# Altium footprint library LED.PcbLib: 8 footprints
Each footprint in its own frame and in the unit in brackets; x right, y up, seen from the top. Pads: shape width x height; smd on the part's side, far side on the other; paste and mask are expansions set on the pad; w line width, h text height; cw(c..) or ccw(c..) is an arc to the next point about the centre after c.
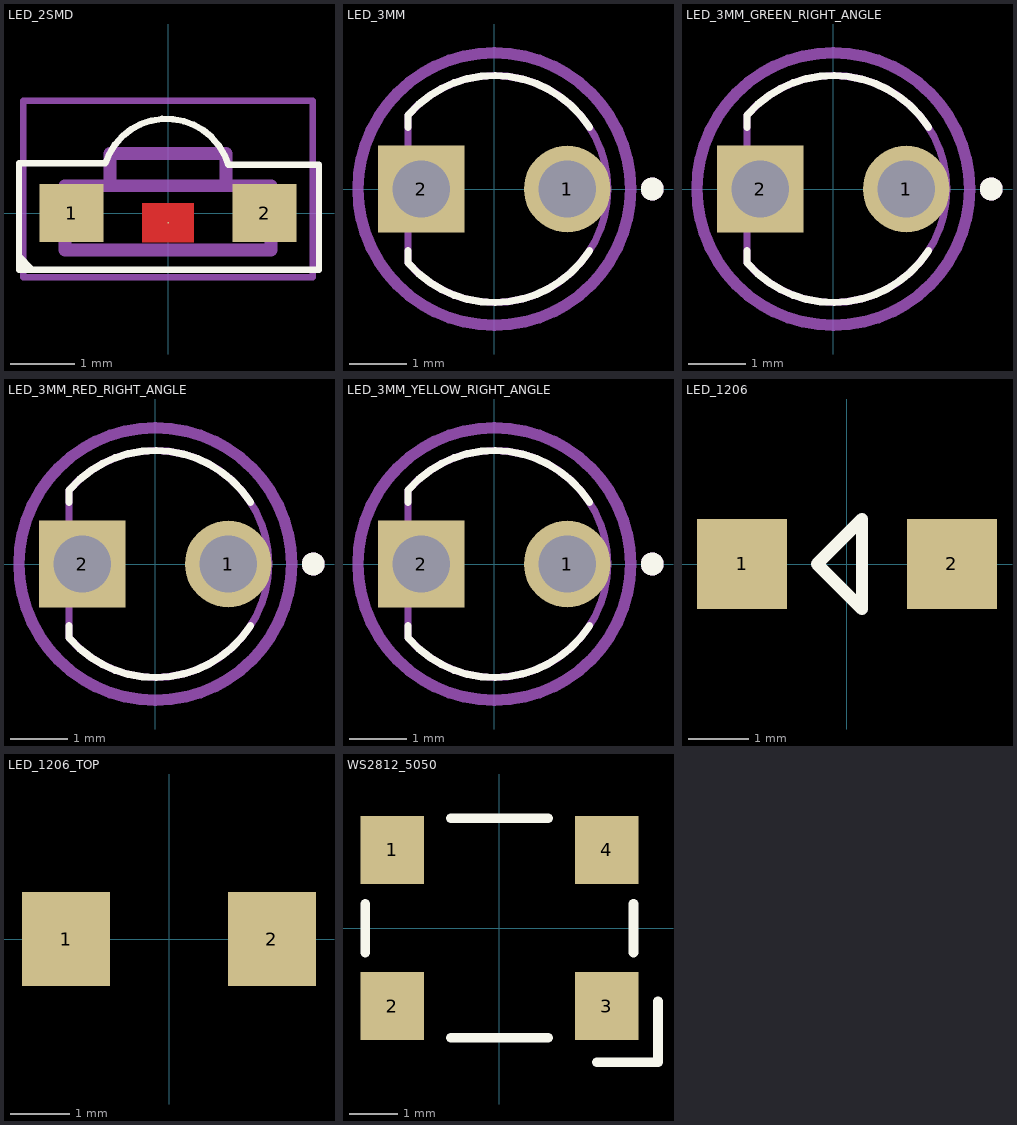
[diagram p0: the footprints below, top view; thin cyan lines are the x and y axes]

## LED_2SMD [mm]
pads (3):
  rect 1x0.9 smd: 1(-1.5,0) 2(1.5,0)
  round 0.025 smd: 3(0,-0.15)
Top Layer:
  region: -0.4,0.15 0.4,0.15 0.4,-0.45 -0.4,-0.45
Top Overlay:
  lines w0.1: -2.309,-0.679 -2.309,-0.682 -2.125,-0.866 -2.239,-0.866 -2.289,-0.816 -2.289,-0.776 ; 0.936,0.749 ccw(c-0.024,0.467) -0.975,0.775 -2.317,0.775 -2.317,-0.878 2.346,-0.878 2.346,0.75 0.94,0.75
Mechanical 13:
  lines w0.2: -1.6,-0.575 -1.6,0.425 1.6,0.425 1.6,-0.575 -1.6,-0.575 ; -0.9,0.425 -0.9,0.925 0.9,0.925 0.9,0.425 -0.9,0.425
Mechanical 15:
  lines w0.1: -2.25,-1 -2.25,1.75 2.25,1.75 2.25,-1 -2.25,-1
3D body "Download_STP_WL-SMSW-1204_rev1.stp": height 1, standoff 0, extent -1.594,-0.089 1.606,1.389

## LED_3MM [mm]
pads (2):
  round 1.508 hole 1: 1(1.27,0)
  rect 1.508x1.508 / inner round 1.508 / far side rect 1.508x1.508 hole 1: 2(-1.27,0)
Top Overlay:
  circle w0.2: c2.75,0 r0.1
  lines w0.127: -1.5,-1.285 -1.5,-1.074 ; -1.5,1.074 -1.5,1.285 ; -1.491,-1.296 ccw(c0,0) 1.656,-1.076 ; -1.491,1.296 cw(c0,0) 1.656,1.076
Mechanical 13:
  circle w0.2: c2.75,0 r0.1
  lines w0.127: -1.5,-1.285 -1.5,1.285 ; -1.491,-1.296 ccw(c0,0) -1.491,1.296
Mechanical 15:
  circle w0.2: c0,0 r2.372
3D body "LED 3mm Red 3mm Leads.step": height 5.39, standoff -2.99, extent -1.5,-2 1.945,1.85

## LED_3MM_GREEN_RIGHT_ANGLE [mm]
pads (2):
  round 1.508 hole 1: 1(1.27,0)
  rect 1.508x1.508 / inner round 1.508 / far side rect 1.508x1.508 hole 1: 2(-1.27,0)
Top Overlay:
  circle w0.2: c2.75,0 r0.1
  lines w0.127: -1.5,-1.285 -1.5,-1.074 ; -1.5,1.074 -1.5,1.285 ; -1.491,-1.296 ccw(c0,0) 1.656,-1.076 ; -1.491,1.296 cw(c0,0) 1.656,1.076
Mechanical 13:
  circle w0.2: c2.75,0 r0.1
  lines w0.127: -1.5,-1.285 -1.5,1.285 ; -1.491,-1.296 ccw(c0,0) -1.491,1.296
Mechanical 15:
  circle w0.2: c0,0 r2.372
3D body "LED 3mm, Green, Thru-hole, Right Angle PCB 1.stp": height 3.92, standoff -3.2, extent -1.567,-7.275 2,0.275

## LED_3MM_RED_RIGHT_ANGLE [mm]
pads (2):
  round 1.508 hole 1: 1(1.27,0)
  rect 1.508x1.508 / inner round 1.508 / far side rect 1.508x1.508 hole 1: 2(-1.27,0)
Top Overlay:
  circle w0.2: c2.75,0 r0.1
  lines w0.127: -1.5,-1.285 -1.5,-1.074 ; -1.5,1.074 -1.5,1.285 ; -1.491,-1.296 ccw(c0,0) 1.656,-1.076 ; -1.491,1.296 cw(c0,0) 1.656,1.076
Mechanical 13:
  circle w0.2: c2.75,0 r0.1
  lines w0.127: -1.5,-1.285 -1.5,1.285 ; -1.491,-1.296 ccw(c0,0) -1.491,1.296
Mechanical 15:
  circle w0.2: c0,0 r2.372
3D body "LED 3mm, Red, Thru-hole, Right Angle PCB 1.stp": height 3.92, standoff -3.2, extent -1.567,-7.275 2,0.275

## LED_3MM_YELLOW_RIGHT_ANGLE [mm]
pads (2):
  round 1.508 hole 1: 1(1.27,0)
  rect 1.508x1.508 / inner round 1.508 / far side rect 1.508x1.508 hole 1: 2(-1.27,0)
Top Overlay:
  circle w0.2: c2.75,0 r0.1
  lines w0.127: -1.5,-1.285 -1.5,-1.074 ; -1.5,1.074 -1.5,1.285 ; -1.491,-1.296 ccw(c0,0) 1.656,-1.076 ; -1.491,1.296 cw(c0,0) 1.656,1.076
Mechanical 13:
  circle w0.2: c2.75,0 r0.1
  lines w0.127: -1.5,-1.285 -1.5,1.285 ; -1.491,-1.296 ccw(c0,0) -1.491,1.296
Mechanical 15:
  circle w0.2: c0,0 r2.372
3D body "LED 3mm, Yellow, Thru-hole, Right Angle PCB 1.stp": height 3.92, standoff -3.2, extent -1.567,-7.275 2,0.275

## LED_1206 [mm]
pads (2):
  rect 1.5x1.5 smd: 1(-1.75,0) 2(1.75,0)
Top Overlay:
  lines w0.2: -0.5,0 0.25,-0.75 0.25,0.75 -0.5,0
3D body "Download_WL-SMRW-1206dome (rev1).stp": height 1.85, standoff 0, extent -1.6,-0.8 1.6,0.8

## LED_1206_TOP [mm] "LED CLEAR 1206 SMD"
pads (2):
  rect 1.5x1.6 smd: 1(-1.75,0) 2(1.75,0)
3D body "Download_WL-SMRW-1206dome (rev1).stp": height 1.85, standoff 0, extent -1.6,-0.8 1.6,0.8

## WS2812_5050 [mm]
pads (4):
  rect 1.3x1.4 smd mask+0.102: 1(-2.2,1.6) 2(-2.2,-1.6) 3(2.2,-1.6) 4(2.2,1.6)
Top Overlay:
  lines w0.2: -2.75,-0.5 -2.75,0.5 ; -1,-2.25 1,-2.25 ; -1,2.25 1,2.25 ; 2,-2.75 3.25,-2.75 3.25,-1.5 ; 2.75,-0.5 2.75,0.5
3D body "FZ2812-5050.stp": height 1.5, standoff -0.2, extent -2.675,-2.475 2.675,2.475